# Altium footprint library INDUCTOR 0630.PcbLib: 1 footprints
Each footprint in its own frame and in the unit in brackets; x right, y up, seen from the top. Pads: shape width x height; smd on the part's side, far side on the other; paste and mask are expansions set on the pad; w line width, h text height; cw(c..) or ccw(c..) is an arc to the next point about the centre after c.
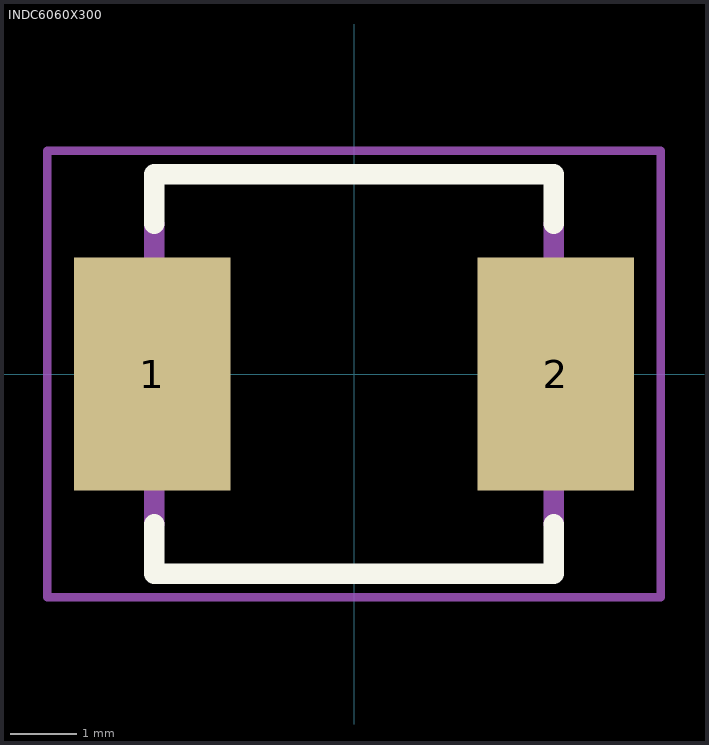
[diagram p0: the footprint, top view; thin cyan lines are the x and y axes]

## INDC6060X300 [mm]
pads (2):
  rect 2.35x3.5 smd: 1(-3.025,0) 2(3.025,0)
Top Overlay:
  lines w0.305: -3,-2.25 -3,-3 3,-3 3,-2.25 ; -3,2.25 -3,3 3,3 3,2.25
Mechanical 13:
  region: 3.5,-1.252 3.004,-1.252 3.004,1.25 3.5,1.25
  region: -3,-1.25 -3.5,-1.25 -3.5,1.25 -3,1.25
  lines w0.305: -3,-2.25 -3,2.25 ; 3,-2.25 3,2.25
Mechanical 15:
  lines w0.127: -4.6,-3.35 -4.6,3.35 4.6,3.35 4.6,-3.35 -4.6,-3.35
3D body "INDUCTOR 0630.STEP": height 3, standoff 0, extent -3.55,-3 3.55,3